# Altium integrated library xuf_0603.IntLib: 1 symbol
Pins are listed as number, name and electrical type; pins without a type are passive.

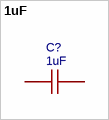
[diagram p0: symbol 1uF]

## 1uF
designator C?
Manufacturer: CCTC(三环); Manufacturer Part: TCC0603X7R105M250CT; Contributor: lcsc; nameAlias: Value; Supplier: LCSC; Supplier Part: C5360778; JLCPCB Part Class: Extended Part; spicePre: C; spiceSymbolName: TCC0603X7R105M250CT
footprint C0603
pins: 1, 2